# Altium footprint library CGRA_pcblib.PcbLib: 54 footprints (part 2 of 4)
Each footprint in its own frame and in the unit in brackets; x right, y up, seen from the top. Pads: shape width x height; smd on the part's side, far side on the other; paste and mask are expansions set on the pad; w line width, h text height; cw(c..) or ccw(c..) is an arc to the next point about the centre after c.
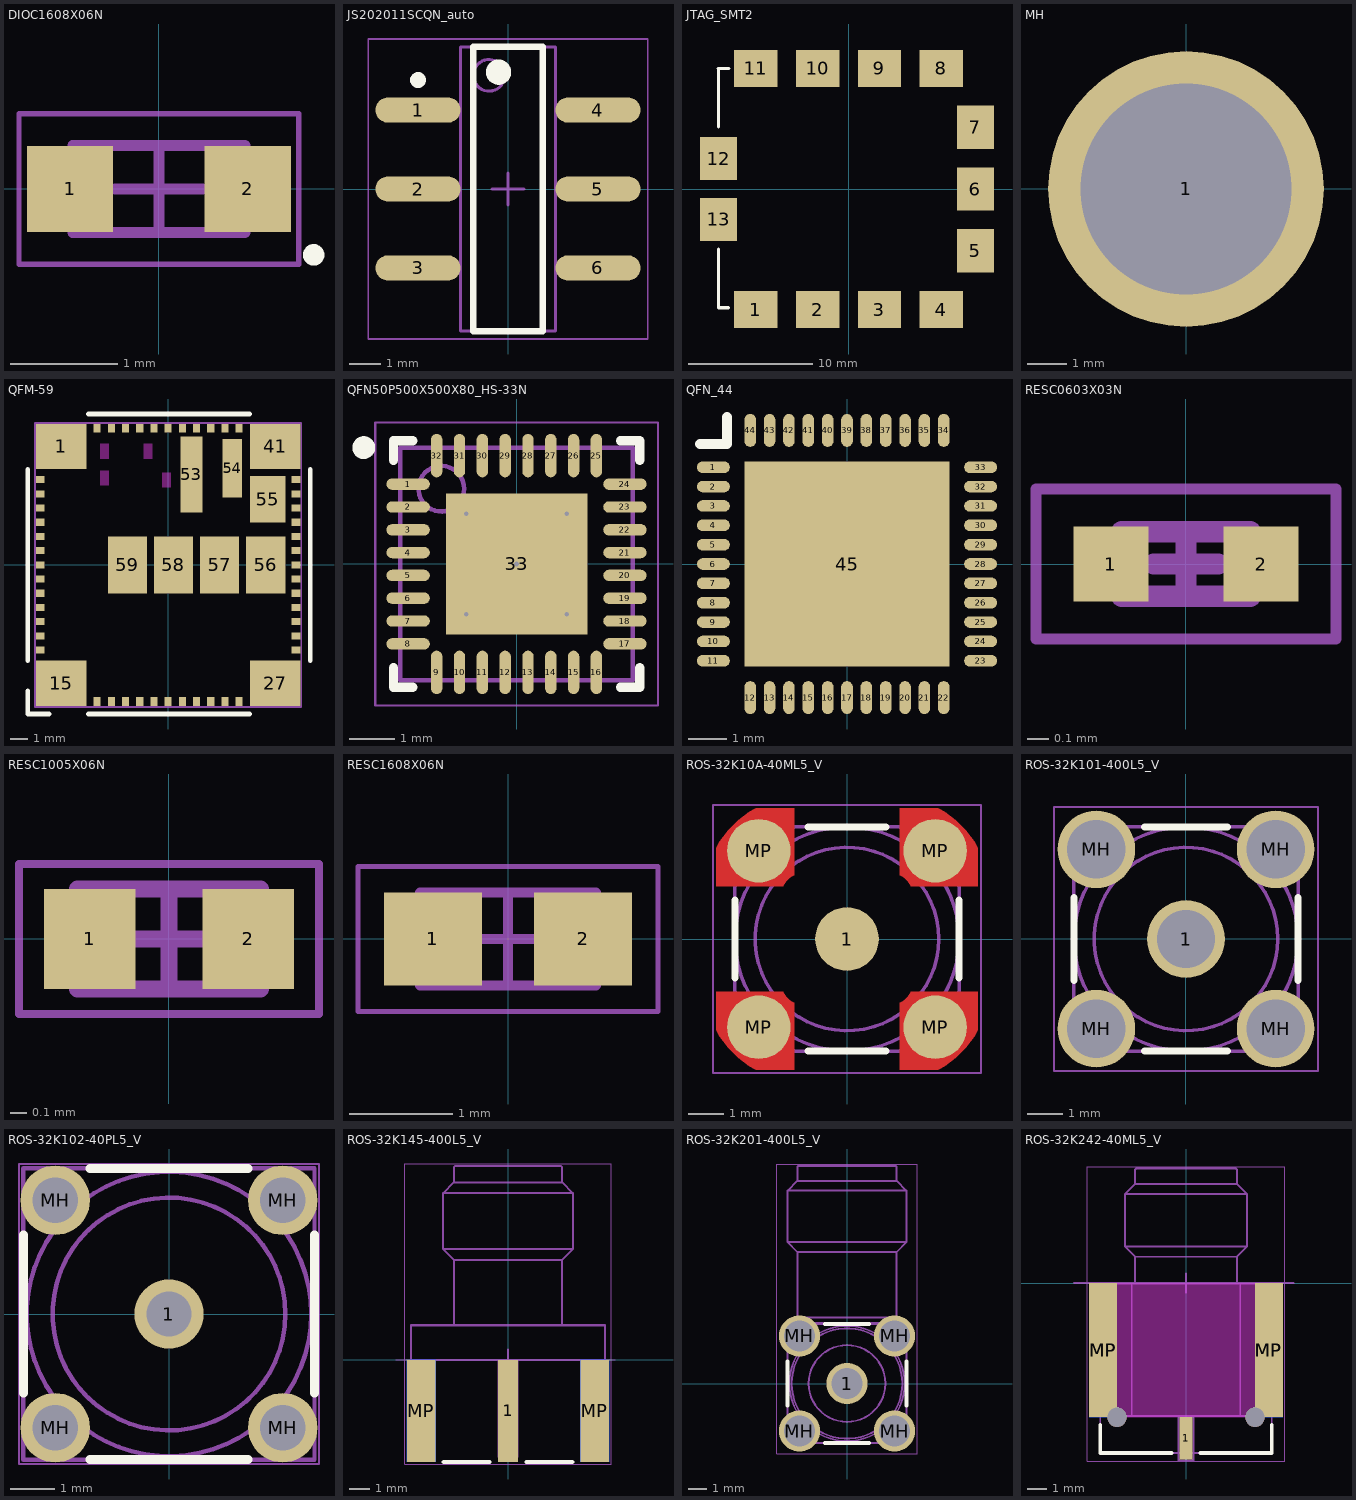
[diagram p1: the footprints below, top view; thin cyan lines are the x and y axes]

## DIOC1608X06N [mm] "Chip Diode, 2-Leads, Body 1.55x0.80mm, IPC Medium Density"
height 0.55
pads (2):
  rect 0.8x0.8 smd: 1(-0.825,0) 2(0.825,0)
Top Overlay:
  circle w0.1: c1.437,-0.612 r0.05
Mechanical 13:
  lines w0.1: -0.8,-0.405 -0.8,0.405 0.8,0.405 0.8,-0.405 -0.8,-0.405
Mechanical 15:
  lines w0.05: -1.3,-0.7 -1.3,0.7 1.3,0.7 1.3,-0.7 -1.3,-0.7
  lines w0.1: -0.405,0 0.405,0 ; 0,-0.405 0,0.405
3D body: height 0.55, standoff 0, extent -0.4,-0.405 0.4,0.405
3D body: height 0.55, standoff 0, extent -0.8,-0.405 -0.4,0.405
3D body: height 0.55, standoff 0, extent 0.4,-0.405 0.8,0.405

## JS202011SCQN_auto [mm] "SOP, 6-Leads, Body 9.00x3.00mm, Pitch 2.50mm, IPC Medium Density"
height 3.5
pads (6):
  oval 2.7x0.8 smd: 1(-2.85,2.5) 2(-2.85,0) 3(-2.85,-2.5) 4(2.85,2.5) 5(2.85,0) 6(2.85,-2.5)
Top Overlay:
  circle w0.25: c-2.85,3.45 r0.125
  circle w0.4: c-0.3,3.7 r0.2
  lines w0.2: -1.1,-4.5 -1.1,4.5 1.1,4.5 1.1,-4.5 -1.1,-4.5
Mechanical 13:
  circle w0.1: c-0.6,3.6 r0.5
  lines w0.1: -1.5,-4.5 -1.5,4.5 1.5,4.5 1.5,-4.5 -1.5,-4.5
Mechanical 15:
  lines w0.05: -4.425,-4.75 -4.425,4.75 4.425,4.75 4.425,-4.75 -4.425,-4.75
  lines w0.1: -0.5,0 0.5,0 ; 0,-0.5 0,0.5
3D body: height 3.5, standoff 0, extent -1.5,-4.5 1.5,4.5

## JTAG_SMT2 [mm]
pads (13):
  rect 3.5x3 smd: 1(-7.5,-9.75) 2(-2.5,-9.75) 3(2.5,-9.75) 4(7.5,-9.75) 8(7.5,9.75) 9(2.5,9.75) 10(-2.5,9.75) 11(-7.5,9.75)
  rect 3x3.5 smd: 5(10.25,-5) 6(10.25,0) 7(10.25,5) 12(-10.5,2.464) 13(-10.5,-2.464)
Top Overlay:
  lines w0.254: -10.566,9.75 -10.5,9.75 ; -10.5,-4.851 -10.5,-9.601 -9.728,-9.601 ; -10.5,5 -10.5,9.75 ; -10.5,9.75 -9.677,9.75 -10.5,9.75

## MH [mil]
pads (1):
  round 275 hole 210 unplated: 1(0,0)
Multi-Layer:
  pour cut-out: -149.61,-149.61 149.61,-149.61 149.61,149.61 -149.61,149.61

## QFM-59 [mm]
pads (59):
  rect 2.85x2.55 smd paste+0 mask+0.051: 1(-6.025,6.675) 15(-6.025,-6.675) 27(6.025,-6.675) 41(6.025,6.675)
  rect 0.5x0.4 smd paste+0 mask+0.051: 2(-7.2,4.8) 3(-7.2,4) 4(-7.2,3.2) 5(-7.2,2.4) 6(-7.2,1.6) 7(-7.2,0.8) 8(-7.2,0) 9(-7.2,-0.8) 10(-7.2,-1.6) 11(-7.2,-2.4) 12(-7.2,-3.2) 13(-7.2,-4) 14(-7.2,-4.8) 28(7.2,-4.8) 29(7.2,-4) 30(7.2,-3.2) 31(7.2,-2.4) 32(7.2,-1.6) 33(7.2,-0.8) 34(7.2,0) 35(7.2,0.8) 36(7.2,1.6) 37(7.2,2.4) 38(7.2,3.2) 39(7.2,4) 40(7.2,4.8)
  rect 0.4x0.5 smd mask+0.051: 16(-4,-7.7)
  rect 0.4x0.5 smd paste+0 mask+0.051: 17(-3.2,-7.7) 18(-2.4,-7.7) 19(-1.6,-7.7) 20(-0.8,-7.7) 21(0,-7.7) 22(0.8,-7.7) 23(1.6,-7.7) 24(2.4,-7.7) 25(3.2,-7.7) 26(4,-7.7) 42(4,7.7) 43(3.2,7.7) 44(2.4,7.7) 45(1.6,7.7) 46(0.8,7.7) 47(0,7.7) 48(-0.8,7.7) 49(-1.6,7.7) 50(-2.4,7.7) 51(-3.2,7.7) 52(-4,7.7)
  rect 1.24x4.27 smd paste+0 mask+0.051: 53(1.31,5.1)
  rect 1.1x3.3 smd paste+0 mask+0.051: 54(3.6,5.45)
  rect 2x2.6 smd paste+0 mask+0.051: 55(5.6,3.7)
  rect 2.2x3.2 smd paste+0 mask+0.051: 56(5.5,0) 57(2.9,0) 58(0.3,0) 59(-2.3,0)
Top Layer keep-out:
  rectangle: -1.375,5.975 -0.875,6.825
  rectangle: -0.35,4.35 0.15,5.2
  rectangle: -3.825,5.975 -3.325,6.825
  rectangle: -3.825,4.475 -3.325,5.325
Top Overlay:
  lines w0.254: -7.9,-7.1 -7.9,-8.4 -6.7,-8.4 ; -7.9,-5.4 -7.9,5.4 ; -4.5,-8.4 4.6,-8.4 ; -4.5,8.5 4.6,8.5 ; 8,-5.4 8,5.4
Mechanical 1:
  lines w0.1: -7.5,-8 -7.5,8 7.5,8 7.5,-8 -7.5,-8

## QFN50P500X500X80_HS-33N [mm] "QFN, 32-Leads, Body 5.00x5.00mm, Pitch 0.50mm, Thermal Pad 3.10x3.10mm, IPC Medium Density"
height 0.8
pads (33):
  oval 0.95x0.25 smd: 1(-2.375,1.75) 2(-2.375,1.25) 3(-2.375,0.75) 4(-2.375,0.25) 5(-2.375,-0.25) 6(-2.375,-0.75) 7(-2.375,-1.25) 8(-2.375,-1.75) 17(2.375,-1.75) 18(2.375,-1.25) 19(2.375,-0.75) 20(2.375,-0.25) 21(2.375,0.25) 22(2.375,0.75) 23(2.375,1.25) 24(2.375,1.75)
  oval 0.25x0.95 smd: 9(-1.75,-2.375) 10(-1.25,-2.375) 11(-0.75,-2.375) 12(-0.25,-2.375) 13(0.25,-2.375) 14(0.75,-2.375) 15(1.25,-2.375) 16(1.75,-2.375) 25(1.75,2.375) 26(1.25,2.375) 27(0.75,2.375) 28(0.25,2.375) 29(-0.25,2.375) 30(-0.75,2.375) 31(-1.25,2.375) 32(-1.75,2.375)
  rect 3.1x3.1 smd: 33(0,0)
via 1.1,-1.1 diameter 0.406 hole 0.102
via -1.1,-1.1 diameter 0.406 hole 0.102
via 0,0 diameter 0.406 hole 0.102
via 1.1,1.1 diameter 0.406 hole 0.102
via -1.1,1.1 diameter 0.406 hole 0.102
Top Overlay:
  circle w0.25: c-3.35,2.55 r0.125
  lines w0.2: -2.7,-2.275 -2.7,-2.7 -2.275,-2.7 ; -2.7,2.275 -2.7,2.7 -2.275,2.7 ; 2.275,-2.7 2.7,-2.7 2.7,-2.275 ; 2.275,2.7 2.7,2.7 2.7,2.275
Mechanical 13:
  circle w0.1: c-1.65,1.65 r0.5
  lines w0.1: -2.55,-2.55 2.55,-2.55 2.55,2.55 -2.55,2.55 -2.55,-2.55
Mechanical 15:
  lines w0.05: -3.1,-3.1 3.1,-3.1 3.1,3.1 -3.1,3.1 -3.1,-3.1
  lines w0.1: -0.5,0 0.5,0 ; 0,-0.5 0,0.5
3D body: height 0.8, standoff 0.02, extent -2.55,-2.55 2.55,2.55

## QFN_44 [mm]
pads (45):
  oval 0.85x0.3 smd: 1(-3.45,2.5) 2(-3.45,2) 3(-3.45,1.5) 4(-3.45,1) 5(-3.45,0.5) 6(-3.45,0) 7(-3.45,-0.5) 8(-3.45,-1) 9(-3.45,-1.5) 10(-3.45,-2) 11(-3.45,-2.5) 23(3.45,-2.5) 24(3.45,-2) 25(3.45,-1.5) 26(3.45,-1) 27(3.45,-0.5) 28(3.45,0) 29(3.45,0.5) 30(3.45,1) 31(3.45,1.5) 32(3.45,2) 33(3.45,2.5)
  oval 0.3x0.85 smd: 12(-2.5,-3.45) 13(-2,-3.45) 14(-1.5,-3.45) 15(-1,-3.45) 16(-0.5,-3.45) 17(0,-3.45) 18(0.5,-3.45) 19(1,-3.45) 20(1.5,-3.45) 21(2,-3.45) 22(2.5,-3.45) 34(2.5,3.45) 35(2,3.45) 36(1.5,3.45) 37(1,3.45) 38(0.5,3.45) 39(0,3.45) 40(-0.5,3.45) 41(-1,3.45) 42(-1.5,3.45) 43(-2,3.45) 44(-2.5,3.45)
  rect 5.3x5.3 smd: 45(0,0)
Top Overlay:
  lines w0.254: -3.8,3.1 -3.1,3.1 -3.1,3.8

## RESC0603X03N [mm] "Chip Resistor, 2-Leads, Body 0.60x0.30mm, IPC Medium Density"
height 0.3
pads (2):
  rect 0.35x0.35 smd mask+0.051: 1(-0.35,0) 2(0.35,0)
Mechanical 13:
  lines w0.1: -0.3,-0.15 -0.3,0.15 0.3,0.15 0.3,-0.15 -0.3,-0.15
Mechanical 15:
  lines w0.05: -0.7,-0.35 -0.7,0.35 0.7,0.35 0.7,-0.35 -0.7,-0.35
  lines w0.1: -0.15,0 0.15,0 ; 0,-0.15 0,0.15
3D body: height 0.3, standoff 0, extent -0.2,-0.15 0.2,0.15
3D body: height 0.3, standoff 0, extent -0.3,-0.15 -0.2,0.15
3D body: height 0.3, standoff 0, extent 0.2,-0.15 0.3,0.15

## RESC1005X06N [mm] "Chip Resistor, 2-Leads, Body 1.00x0.50mm, IPC Medium Density"
height 0.6
pads (2):
  rect 0.55x0.6 smd mask+0.051: 1(-0.475,0) 2(0.475,0)
Mechanical 13:
  lines w0.1: -0.55,-0.3 0.55,-0.3 0.55,0.3 -0.55,0.3 -0.55,-0.3
Mechanical 15:
  lines w0.05: -0.9,-0.45 0.9,-0.45 0.9,0.45 -0.9,0.45 -0.9,-0.45
  lines w0.1: -0.3,0 0.3,0 ; 0,-0.3 0,0.3
3D body: height 0.6, standoff 0, extent 0.32,-0.3 0.55,0.3
3D body: height 0.6, standoff 0, extent -0.55,-0.3 -0.32,0.3
3D body: height 0.6, standoff 0, extent -0.32,-0.3 0.32,0.3

## RESC1608X06N [mm] "Chip Resistor, 2-Leads, Body 1.60x0.80mm, IPC Medium Density"
height 0.55
pads (2):
  rect 0.95x0.9 smd mask+0.076: 1(-0.725,0) 2(0.725,0)
Mechanical 13:
  lines w0.1: -0.85,-0.45 -0.85,0.45 0.85,0.45 0.85,-0.45 -0.85,-0.45
Mechanical 15:
  lines w0.05: -1.45,-0.7 -1.45,0.7 1.45,0.7 1.45,-0.7 -1.45,-0.7
  lines w0.1: -0.45,0 0.45,0 ; 0,-0.45 0,0.45
3D body: height 0.55, standoff 0, extent -0.55,-0.45 0.55,0.45
3D body: height 0.55, standoff 0, extent -0.85,-0.45 -0.55,0.45
3D body: height 0.55, standoff 0, extent 0.55,-0.45 0.85,0.45

## ROS-32K10A-40ML5_V [mm] "SMA Straight Jack, Press-Fit, 6.35x6.35x9.5mm, Rosenberger Recommended"
height 9.5
pads (5):
  round 1.8 smd: 1(0,0) MP(-2.5,-2.5) MP(-2.5,2.5) MP(2.5,-2.5) MP(2.5,2.5)
Top Layer:
  region: 1.5,1.8 1.549,1.777 1.64,1.716 1.716,1.639 1.777,1.549 1.8,1.5 3.7,1.5 3.7,2.587 3.608,2.765 3.371,3.088 3.088,3.371 2.765,3.608 2.587,3.7 1.5,3.7
  region: -1.8,1.5 -1.777,1.549 -1.716,1.64 -1.639,1.716 -1.549,1.777 -1.5,1.8 -1.5,3.7 -2.587,3.7 -2.765,3.608 -3.088,3.371 -3.371,3.088 -3.608,2.765 -3.7,2.587 -3.7,1.5
  region: -1.5,-1.8 -1.549,-1.777 -1.64,-1.716 -1.716,-1.639 -1.777,-1.549 -1.8,-1.5 -3.7,-1.5 -3.7,-2.587 -3.608,-2.765 -3.371,-3.088 -3.088,-3.371 -2.765,-3.608 -2.587,-3.7 -1.5,-3.7
  region: 1.8,-1.5 1.777,-1.549 1.716,-1.64 1.639,-1.716 1.549,-1.777 1.5,-1.8 1.5,-3.7 2.587,-3.7 2.765,-3.608 3.088,-3.371 3.371,-3.088 3.608,-2.765 3.7,-2.587 3.7,-1.5
Top Overlay:
  lines w0.2: -3.175,-1.1 -3.175,1.1 ; -1.1,-3.175 1.1,-3.175 ; -1.1,3.175 1.1,3.175 ; 3.175,-1.1 3.175,1.1
Mechanical 13:
  circle w0.1: c0,0 r0.635
  circle w0.1: c0,0 r2.6
  circle w0.1: c0,0 r3.175
  lines w0.1: -3.188,-2.811 ccw(c0,0) -2.811,-3.188 ; -3.188,2.811 cw(c0,0) -2.811,3.188 ; -3.175,-2.8 -3.175,2.8 ; -3.175,-1.9 -1.9,-1.9 -1.9,-3.175 ; -3.175,1.9 -1.9,1.9 -1.9,3.175 ; -2.8,-3.175 2.8,-3.175 ; -2.8,3.175 2.8,3.175 ; -0.1,-0.627 -0.1,0.627 ; 0.1,-0.627 0.1,0.627 ; 1.9,-3.175 1.9,-1.9 3.175,-1.9 ; 1.9,3.175 1.9,1.9 3.175,1.9 ; 2.811,-3.188 ccw(c0,0) 3.188,-2.811 ; 2.811,3.188 cw(c0,0) 3.188,2.811 ; 3.175,-2.8 3.175,2.8
Mechanical 15:
  lines w0.05: -3.8,-3.8 -3.8,3.8 3.8,3.8 3.8,-3.8 -3.8,-3.8
  lines w0.1: -0.5,0 0.5,0 ; 0,-0.5 0,0.5
3D body "32k10a-40ml5.stp": height 9.5, standoff 0, extent -3.175,-3.175 3.175,3.175

## ROS-32K101-400L5_V [mm] "SMA Straight Jack, 6.35x6.35x9.5mm, Rosenberger Recommended"
height 9.5
pads (5):
  round 2.2 hole 1.65: 1(0,0) MH(-2.54,-2.54) MH(-2.54,2.54) MH(2.54,-2.54) MH(2.54,2.54)
Top Overlay:
  lines w0.2: -3.175,-1.181 -3.175,1.181 ; -1.181,-3.175 1.181,-3.175 ; -1.181,3.175 1.181,3.175 ; 3.175,-1.181 3.175,1.181
Mechanical 13:
  circle w0.1: c0,0 r3.175
  circle w0.1: c0,0 r2.6
  circle w0.1: c0,0 r0.635
  lines w0.1: -3.19,-2.808 ccw(c0,0) -2.808,-3.191 ; -3.19,2.808 cw(c0,0) -2.808,3.19 ; -3.175,-2.794 -3.175,2.794 ; -3.04,-2.97 -3.04,-2.04 -2.04,-2.04 -2.04,-3.04 -2.97,-3.04 ; -3.04,2.97 -3.04,2.04 -2.04,2.04 -2.04,3.04 -2.97,3.04 ; -2.794,-3.175 2.794,-3.175 ; -2.794,3.175 2.794,3.175 ; -0.1,-0.627 -0.1,0.627 ; 0.1,-0.627 0.1,0.627 ; 2.808,-3.191 ccw(c0,0) 3.191,-2.808 ; 2.808,3.19 cw(c0,0) 3.191,2.808 ; 2.97,3.04 2.04,3.04 2.04,2.04 3.04,2.04 3.04,2.97 ; 2.97,-3.04 2.04,-3.04 2.04,-2.04 3.04,-2.04 3.04,-2.97 ; 3.175,-2.794 3.175,2.794
Mechanical 15:
  lines w0.05: -3.74,-3.74 -3.74,3.74 3.74,3.74 3.74,-3.74 -3.74,-3.74
  lines w0.1: -0.635,0 0.508,0 ; 0,-0.508 0,0.635
3D body "32k101-400l5.stp": height 9.5, standoff -4, extent -3.175,-3.175 3.175,3.175

## ROS-32K102-40PL5_V [mm] "SMA Straight Jack, 6.5x6.5x9.5mm, Rosenberger Recommended"
height 9.5
pads (5):
  round 1.55 hole 1.015: 1(0,0) MH(-2.54,-2.54) MH(-2.54,2.54) MH(2.54,-2.54) MH(2.54,2.54)
Top Overlay:
  lines w0.2: -3.25,-1.767 -3.25,1.767 ; -1.767,-3.25 1.767,-3.25 ; -1.767,3.25 1.767,3.25 ; 3.25,-1.767 3.25,1.767
Mechanical 13:
  circle w0.1: c0,0 r3.175
  circle w0.1: c0,0 r2.6
  circle w0.1: c0,0 r0.635
  lines w0.1: -0.1,-0.627 -0.1,0.627 ; 0.1,-0.627 0.1,0.627 ; -2.84,-2.84 -2.24,-2.84 ; -2.84,-2.84 -2.84,-2.24 ; -2.84,-2.84 -2.665,-2.665 ; -2.84,-2.84 -2.729,-3.14 -2.351,-3.14 -2.24,-2.84 ; -2.84,-2.24 -2.665,-2.415 ; -2.84,-2.24 -2.24,-2.24 ; -2.84,-2.24 -2.729,-1.94 -2.351,-1.94 -2.24,-2.24 ; -2.84,2.24 -2.84,2.84 ; -2.84,2.24 -2.665,2.415 ; -2.84,2.24 -2.24,2.24 ; -2.84,2.24 -2.729,1.94 -2.351,1.94 -2.24,2.24 ; -2.84,2.84 -2.24,2.84 ; -2.84,2.84 -2.665,2.665 ; -2.84,2.84 -2.729,3.14 -2.351,3.14 -2.24,2.84 ; -2.665,-2.665 -2.665,-2.415 ; -2.665,-2.665 -2.415,-2.665 ; -2.665,-2.415 -2.415,-2.415 ; -2.665,2.415 -2.415,2.415 ; -2.665,2.415 -2.665,2.665 ; -2.665,2.665 -2.415,2.665 ; -2.415,-2.665 -2.415,-2.415 ; -2.415,-2.665 -2.24,-2.84 ; -2.415,-2.415 -2.24,-2.24 ; -2.415,2.415 -2.415,2.665 ; -2.415,2.415 -2.24,2.24 ; -2.415,2.665 -2.24,2.84 ; -2.24,-2.84 -2.24,-2.24 ; -2.24,2.24 -2.24,2.84 ; 2.24,-2.84 2.415,-2.665 ; 2.24,-2.84 2.84,-2.84 ; 2.24,-2.84 2.24,-2.24 ; 2.24,-2.84 2.351,-3.14 2.729,-3.14 2.84,-2.84 ; 2.24,-2.24 2.84,-2.24 ; 2.24,-2.24 2.415,-2.415 ; 2.24,-2.24 2.351,-1.94 2.729,-1.94 2.84,-2.24 ; 2.24,2.24 2.351,1.94 2.729,1.94 2.84,2.24 ; 2.24,2.24 2.415,2.415 ; 2.24,2.24 2.84,2.24 ; 2.24,2.24 2.24,2.84 ; 2.24,2.84 2.351,3.14 2.729,3.14 2.84,2.84 ; 2.24,2.84 2.84,2.84 ; 2.24,2.84 2.415,2.665 ; 2.415,-2.665 2.415,-2.415 ; 2.415,-2.665 2.665,-2.665 ; 2.415,-2.415 2.665,-2.415 ; 2.415,2.415 2.665,2.415 ; 2.415,2.415 2.415,2.665 ; 2.415,2.665 2.665,2.665 ; 2.665,-2.665 2.665,-2.415 ; 2.665,-2.665 2.84,-2.84 ; 2.665,-2.415 2.84,-2.24 ; 2.665,2.415 2.84,2.24 ; 2.665,2.415 2.665,2.665 ; 2.665,2.665 2.84,2.84 ; 2.84,-2.84 2.84,-2.24 ; 2.84,2.24 2.84,2.84 ; -3.25,-3.25 -3.25,3.25 3.25,3.25 3.25,-3.25 -3.25,-3.25
Mechanical 15:
  lines w0.05: -3.35,-3.35 3.35,-3.35 3.35,3.35 -3.35,3.35 -3.35,-3.35
  lines w0.1: -0.5,0 0.5,0 ; 0,-0.5 0,0.5
3D body "32k102-40pl5.stp": height 9.5, standoff -2.8, extent -3.25,-3.25 3.25,3.25

## ROS-32K145-400L5_V [mm] "SMA Right Angle Jack, Edge Mount, 14.25x9.5x4.46mm, Rosenberger Recommended"
height 4.46
pads (5):
  rect 1x5 smd: 1(0,-2.5)
  rect 1.4x5 smd: MP(-4.25,-2.5) MP(4.25,-2.5)
  rect 1.4x5 smd far side paste-2: ""(-4.25,-2.5) ""(4.25,-2.5)
Top Overlay:
  lines w0.2: -3.15,-5 -0.9,-5 ; 0.9,-5 3.15,-5
Mechanical 3:
  lines w0.05: -5.5,0 5.25,0
  text "Board Edge" at -8.1,0 h0.2
Mechanical 13:
  lines w0.1: -3.75,0 -3.75,-4.75 -4.75,-4.75 -4.75,0 ; -2.65,1.7 -2.65,4.9 ; -0.46,0 -0.46,-4.75 0.46,-4.75 0.46,0 ; 2.65,1.7 2.65,4.9 ; 3.75,0 3.75,-4.75 4.75,-4.75 4.75,0 ; -4.75,0 4.75,0 ; -4.75,0 -4.75,1.7 4.75,1.7 4.75,0 ; -3.175,5.425 -3.175,8.175 ; -3.175,5.425 -2.65,4.9 ; -3.175,5.425 3.175,5.425 ; -3.175,8.175 3.175,8.175 ; -3.175,8.175 -2.65,8.7 ; -2.65,4.9 2.65,4.9 ; -2.65,8.7 -2.65,9.45 -2.6,9.5 2.6,9.5 2.65,9.45 2.65,8.7 ; -2.65,8.7 2.65,8.7 ; 2.65,4.9 3.175,5.425 ; 2.65,8.7 3.175,8.175 ; 3.175,5.425 3.175,8.175
Mechanical 15:
  lines w0.05: -5.05,-5.1 5.05,-5.1 5.05,9.6 -5.05,9.6 -5.05,-5.1
  lines w0.1: -0.5,0 0.5,0 ; 0,-0.5 0,0.5
3D body "32k145-400l5.stp": height 4.46, standoff -3.7, extent -4.75,-4.75 4.75,9.5

## ROS-32K201-400L5_V [mm] "SMA Right Angle Jack, 14.8x6.35x9.6mm, Rosenberger Recommended"
height 9.6
pads (5):
  round 2.2 hole 1.65: 1(0,0) MH(-2.54,-2.54) MH(-2.54,2.54) MH(2.54,-2.54) MH(2.54,2.54)
Top Overlay:
  lines w0.2: -3.175,-1.181 -3.175,1.181 ; -1.181,-3.175 1.181,-3.175 ; -1.181,3.175 1.181,3.175 ; 3.175,-1.181 3.175,1.181
Mechanical 13:
  circle w0.1: c0,0 r3.075
  circle w0.1: c0,0 r0.635
  circle w0.1: c0,0 r2.95
  circle w0.1: c0,0 r2.05
  lines w0.05: -2.9,3.275 2.9,3.275
  lines w0.1: -3.175,2.9 cw(c0,0) -2.9,3.175 -2.9,3.275 -2.65,3.525 ; -3.175,2.905 -3.175,-2.9 ccw(c0,0) -2.9,-3.175 2.9,-3.175 ccw(c0,0) 3.175,-2.9 3.175,2.9 ccw(c0,0) 2.9,3.175 ; -2.905,3.175 2.9,3.175 ; -3.175,7.55 -3.175,10.3 ; -3.175,7.55 -2.65,7.025 ; -3.175,7.55 3.175,7.55 ; -3.175,10.3 -2.65,10.825 ; -3.175,10.3 3.175,10.3 ; -2.65,3.525 -2.65,7.025 ; -2.65,3.525 2.65,3.525 ; -2.65,7.025 2.65,7.025 ; -2.65,10.825 -2.65,11.575 -2.6,11.625 -2.375,11.625 2.375,11.625 2.6,11.625 2.65,11.575 2.65,10.825 ; -2.65,10.825 2.65,10.825 ; 2.65,3.525 2.9,3.275 2.9,3.175 ; 2.65,3.525 2.65,7.025 ; 2.65,7.025 3.175,7.55 ; 2.65,10.825 3.175,10.3 ; 3.175,7.55 3.175,10.3 ; -3.04,-3.04 -3.04,-2.04 -2.04,-2.04 -2.04,-3.04 -3.04,-3.04 ; -3.04,2.04 -2.04,2.04 -2.04,3.04 -3.04,3.04 -3.04,2.04 ; 2.04,-3.04 2.04,-2.04 3.04,-2.04 3.04,-3.04 2.04,-3.04 ; 2.04,2.04 3.04,2.04 3.04,3.04 2.04,3.04 2.04,2.04
Mechanical 15:
  lines w0.05: -3.74,-3.74 3.74,-3.74 3.74,11.725 -3.74,11.725 -3.74,-3.74
  lines w0.1: -0.5,0 0.5,0 ; 0,-0.5 0,0.5
3D body "32k201-400l5.stp": height 9.6, standoff -3.9, extent -3.175,-3.175 3.175,11.625

## ROS-32K242-40ML5_V [mm] "SMA Right Angle Jack, Edge Mount, 14.84x8.944x4.00mm, Rosenberger Recommended"
height 4
pads (5):
  rect 0.7x2.2 smd: 1(0,-8.1)
  rect 1.45x7 smd: MP(-4.325,-3.5) MP(4.325,-3.5)
  rect 1.45x7 smd far side paste-2: MP(-4.325,-3.5) MP(4.325,-3.5)
via 3.6,-7 diameter 1 hole 1
via -3.6,-7 diameter 1 hole 1
Top Overlay:
  lines w0.2: -4.472,-7.4 -4.472,-8.869 -0.75,-8.869 ; 0.75,-8.869 4.472,-8.869 4.472,-7.4
Keep-Out Layer:
  board cut-out: -3.6,-7 3.6,-7 3.6,0 -3.6,0
Mechanical 3:
  lines w0.1: -5.85,0 5.6,0
  text "Board Edge" at -8.244,0.027 h0.2
  text "Plated Edge" at -3.5,-4.75 h0.2
  text "Unplated Edge" at -1.143,-7 h0.2
  text "Plated Edge" at 3.65,-4.65 h0.2
Mechanical 13:
  lines w0.1: -2.828,-6.929 -2.828,-0.029 ; -2.65,-0.029 -2.65,1.371 ; -0.395,-6.929 -0.395,-9.25 0.395,-9.25 0.395,-6.929 ; 2.65,-0.029 2.65,1.371 ; 2.829,-6.929 2.829,-0.029 ; -4.472,-6.929 -4.472,-8.869 4.472,-8.869 4.472,-6.929 ; -4.472,-6.929 -4.472,-0.029 4.472,-0.029 4.472,-6.929 ; -4.472,-6.929 4.472,-6.929 ; -3.175,1.896 -2.65,1.371 ; -3.175,1.896 -3.175,4.646 ; -3.175,1.896 3.175,1.896 ; -3.175,4.646 -2.65,5.171 ; -3.175,4.646 3.175,4.646 ; -2.65,1.371 2.65,1.371 ; -2.65,5.171 -2.65,5.921 -2.6,5.971 2.6,5.971 2.65,5.921 2.65,5.171 ; -2.65,5.171 2.65,5.171 ; 2.65,1.371 3.175,1.896 ; 2.65,5.171 3.175,4.646 ; 3.175,1.896 3.175,4.646
Mechanical 15:
  lines w0.05: -5.15,-9.3 -5.15,6.071 5.15,6.071 5.15,-9.3 -5.15,-9.3
  lines w0.1: -0.5,0 0.5,0 ; 0,-0.5 0,0.5
3D body "32k242-40ml5.stp": height 4, standoff -3, extent -4.472,-8.869 4.472,5.971